# Altium schematic symbol library Components.SchLib: 39 symbols
Pins are listed as number, name and electrical type; pins without a type are passive.

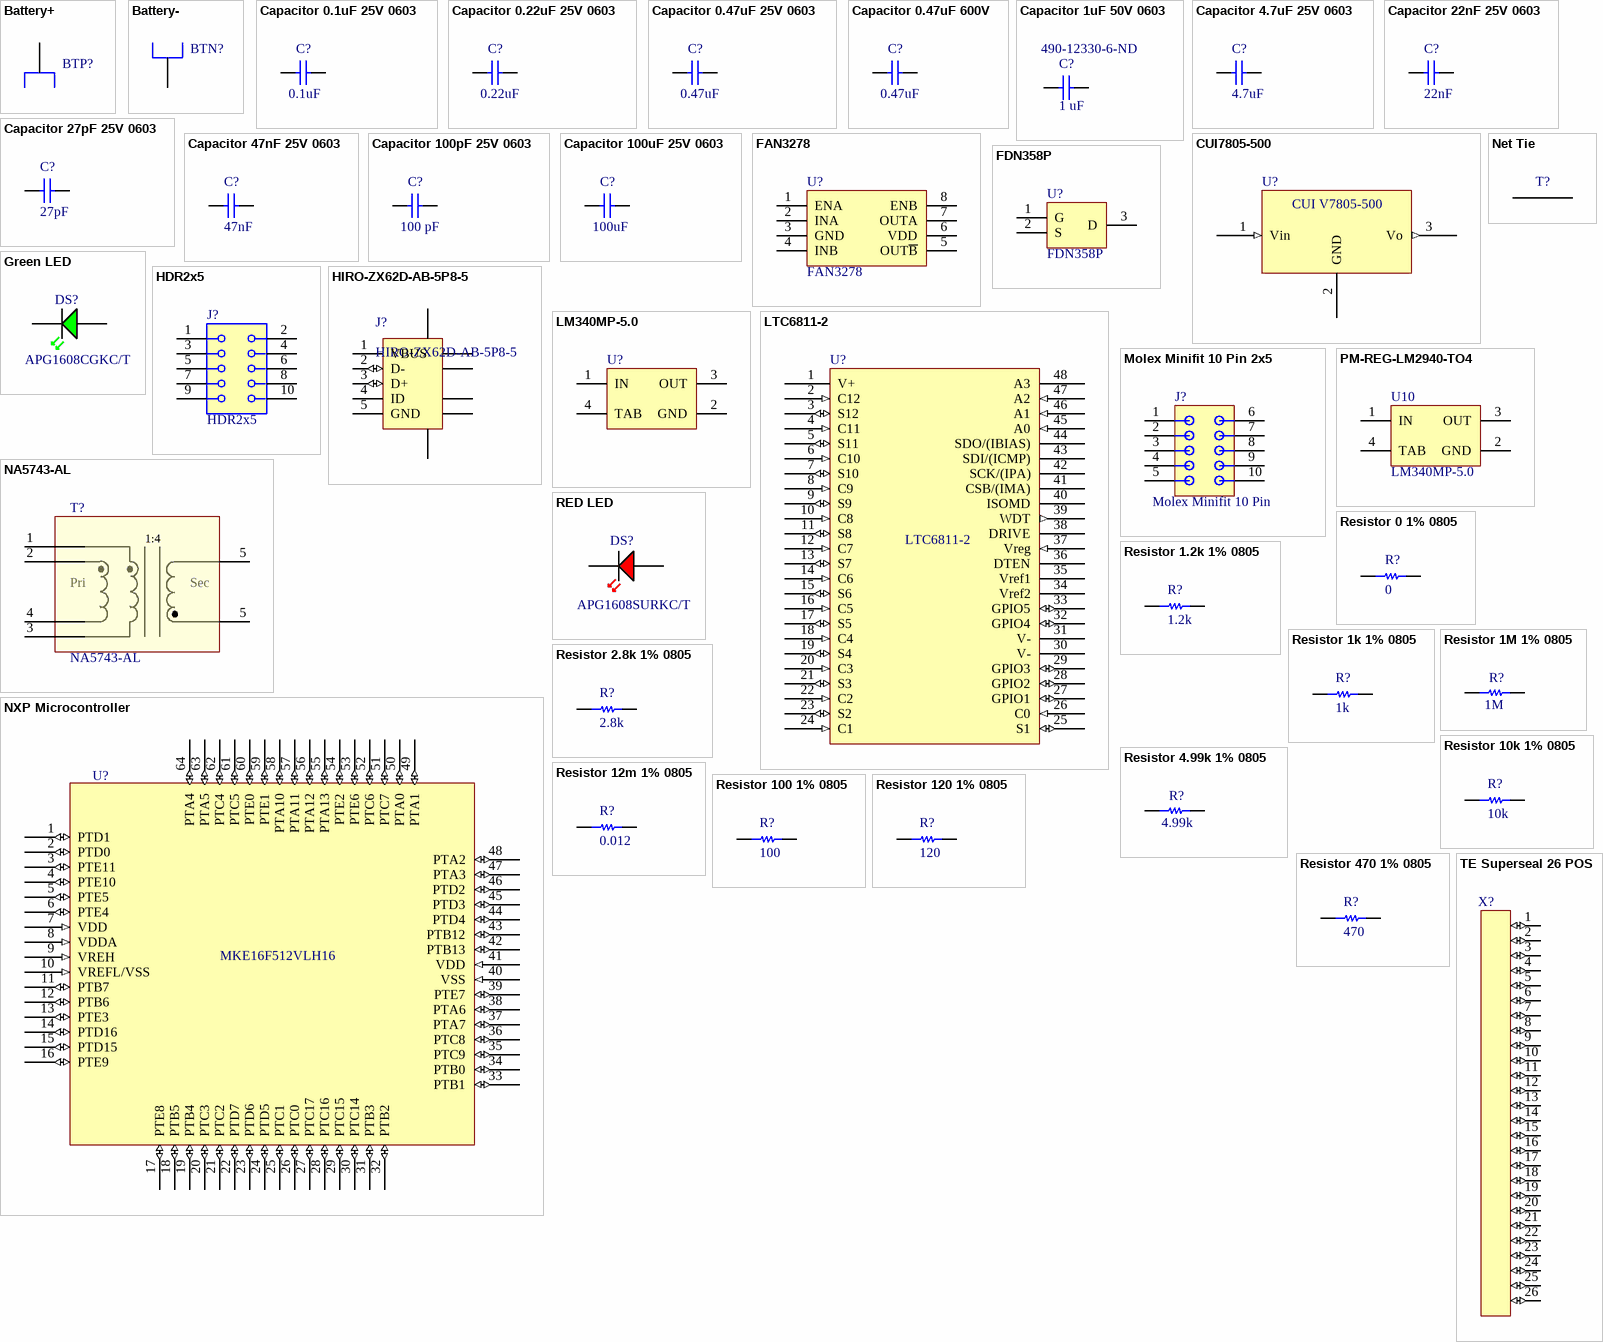
[diagram p0: symbols Battery+ to TE Superseal 26 POS]

## Battery+
designator BTP?, comment BAT+  (value not drawn)
footprint Battery (Battery Connection)
pins: 1 "Battery Positive"

## Battery-
designator BTN?, comment BAT-  (value not drawn)
footprint Battery (Battery Connection)
pins: 1 "Battery Negative"

## Capacitor 0.1uF 25V 0603
designator C?, comment 0.1uF
Supplier 1: Digi-Key; Supplier Part Number 1: 445-5667-6-ND
footprint CAP 0603 SMT (Chip Capacitor, 2-Leads, Body 1.60x0.80mm, IPC Medium Density)
pins: 1 "Positive Supply Pin", 2 "Positive Supply Pin"

## Capacitor 0.22uF 25V 0603
designator C?, comment 0.22uF
Supplier 1: Digi-Key; Supplier Part Number 1: 445-5191-6-ND
footprint CAP 0603 SMT (Chip Capacitor, 2-Leads, Body 1.60x0.80mm, IPC Medium Density)
pins: 1 "Positive Supply Pin", 2 "Positive Supply Pin"

## Capacitor 0.47uF 25V 0603
designator C?, comment 0.47uF
Supplier 1: Arrow; Supplier Part Number 1: 06033C474KAT2A**MULT1
footprint CAP 0603 SMT (Chip Capacitor, 2-Leads, Body 1.60x0.80mm, IPC Medium Density)
pins: 1 "Positive Supply Pin", 2 "Positive Supply Pin"

## Capacitor 0.47uF 600V
designator C?, comment 0.47uF
Supplier 1: Digi-Key; Supplier Part Number 1: 3640CC474KAT9A-ND
pins: 1 "Positive Supply Pin", 2 "Positive Supply Pin"

## Capacitor 1uF 50V 0603
designator C?, comment 1 uF  Supplier Part Number 1: 490-12330-6-ND
Capacitor 1 uF 50V 0603; Supplier 1: Digi-Key
footprint CAP 0603 SMT (Chip Capacitor, 2-Leads, Body 1.60x0.80mm, IPC Medium Density)
pins: 1 "Positive Supply Pin", 2 "Positive Supply Pin"

## Capacitor 4.7uF 25V 0603
designator C?, comment 4.7uF
Supplier 1: Digi-Key; Supplier Part Number 1: 490-7203-6-ND
footprint CAP 0603 SMT (Chip Capacitor, 2-Leads, Body 1.60x0.80mm, IPC Medium Density)
pins: 1 "Positive Supply Pin", 2 "Positive Supply Pin"

## Capacitor 22nF 25V 0603
designator C?, comment 22nF
Supplier 1: Digi-Key; Supplier Part Number 1: 478-5896-6-ND
footprint CAP 0603 SMT (Chip Capacitor, 2-Leads, Body 1.60x0.80mm, IPC Medium Density)
pins: 1 "Positive Supply Pin", 2 "Positive Supply Pin"

## Capacitor 27pF 25V 0603
designator C?, comment 27pF
Supplier 1: Digi-Key; Supplier Part Number 1: 445-4661-6-ND
footprint CAP 0603 SMT (Chip Capacitor, 2-Leads, Body 1.60x0.80mm, IPC Medium Density)
pins: 1 "Positive Supply Pin", 2 "Positive Supply Pin"

## Capacitor 47nF 25V 0603
designator C?, comment 47nF
Supplier 1: Digi-Key; Supplier Part Number 1: 490-1522-6-ND
footprint CAP 0603 SMT (Chip Capacitor, 2-Leads, Body 1.60x0.80mm, IPC Medium Density)
pins: 1 "Positive Supply Pin", 2 "Positive Supply Pin"

## Capacitor 100pF 25V 0603
designator C?, comment 100 pF
Supplier 1: Digi-Key; Supplier Part Number 1: 445-4675-6-ND
footprint CAP 0603 SMT (Chip Capacitor, 2-Leads, Body 1.60x0.80mm, IPC Medium Density)
pins: 1 "Positive Supply Pin", 2 "Positive Supply Pin"

## Capacitor 100uF 25V 0603
designator C?, comment 100uF
pins: 1 "Positive Supply Pin", 2 "Positive Supply Pin"

## CUI7805-500
designator U?, comment CUI V7805-500
pins: 1 Vin (in) "Input Voltage", 2 GND (power), 3 Vo (out) "Positive Supply Pin"

## FAN3278
designator U?
Supplier 1: Digi-Key; Supplier Part Number 1: FAN3278TMXDKR-ND
footprint SOIC127P600X175-8N (SOIC, 8-Leads, Body 4.90x3.90mm, Pitch 1.27mm, IPC Medium Density)
pins: 1 ENA, 2 INA, 3 GND, 4 INB, 5 OUT~{B}, 6 VDD, 7 OUTA, 8 ENB

## FDN358P
designator U?
Supplier 1: Digi-Key; Supplier Part Number 1: FDN358PDKR-ND
footprint SOT95P237X112-3N (SOT23, 3-Leads, Body 2.92x2.37mm, Pitch 0.95mm, IPC Medium Density)
pins: 1 G, 2 S, 3 D

## Green LED
designator DS?, comment APG1608CGKC/T
Supplier 1: Digi-Key; Supplier Part Number 1: 754-1357-6-ND
footprint GREEN LED (Chip Diode, 2-Leads, Body 1.60x0.80mm, IPC Medium Density)
pins: 1 "Positive Supply Pin", 2 "Positive Supply Pin"

## HDR2x5
designator J?
Supplier 1: Digi-Key; Supplier Part Number 1: 1175-1735-ND
footprint HDR 2x5 (Header, 10-Leads, Body 3.43x6.35mm, Pitch 1.27mm)
pins: 1 "Positive Supply Pin", 2 "Positive Supply Pin", 3 "Positive Supply Pin", 4 "Positive Supply Pin", 5 "Positive Supply Pin", 6 "Positive Supply Pin", 7 "Positive Supply Pin", 8 "Positive Supply Pin", 9 "Positive Supply Pin", 10 "Positive Supply Pin"

## HIRO-ZX62D-AB-5P8-5
designator J?
footprint HIROSE USB MICRO (USB Micro-AB Connector, 5-Leads, Pitch 0.65mm)
pins: 1 VBUS (power), 2 D- (io), 3 D+ (io), 4 ID, 5 GND (power), 6 SHLD, 7 SHLD, 8 SHLD, 9 SHLD, 10 SHLD, 11 SHLD

## LM340MP-5.0
designator U?
Series 3-Terminal Positive Regulators, 4-pin SOT-223; PartNumber: LM340MP-5.0; Manufacturer: National Semiconductor; PackageTopMarking: XYTT*N00A; PowerWise: N; CompType: LDO IC; High-Reliability: Y; DatasheetVersion: Jul-2006; PackageVersion: revB, Apr-2003; PackageReference: MP04A; PackageDescription: Molded SOT-223, 6.50 x 3.56 x 1.6mm Body, 4 Lead, 2.3mm Pitch; RoHS: N; PinCount: 4; Code_JEDEC: TO-261-AA; Code_IPC: SOT223-4; ComponentLink1Description: Manufacturer URL; ComponentLink1URL: http://www.national.com/; ComponentLink2Description: LM340 Datasheet; ComponentLink2URL: http://www.national.com/ds/LM/LM340.pdf; ComponentLink3Description: LM340 Web Page; ComponentLink3URL: http://www.national.com/pf/LM/LM340.html; ComponentLink4Description: MP04A Package Page; ComponentLink4URL: http://www.national.com/packaging/folders/mp04a.html
footprint MP04A_N (SOT223, 4-Leads, Body 6.5x3.5mm, Pitch 2.3mm, Lead Span 7mm, IPC Medium Density)
pins: 1 IN (power), 2 GND (power), 3 OUT (power), 4 TAB (power)

## LTC6811-2
designator U?
footprint LTC6811-2 (SSOP, 48-Leads, Body 12.80x5.50mm, Pitch 0.50mm, IPC Medium Density)
pins: 1 V+ (power) "Positive Supply Pin", 2 C12 (in) "Cell Input", 3 S12 (io) "Balance Pin", 4 C11 (in) "Positive Supply Pin", 5 S11 (io) "Positive Supply Pin", 6 C10 (in) "Positive Supply Pin", 7 S10 (io) "Positive Supply Pin", 8 C9 (in) "Cell Input", 9 S9 (io) "Balance Pin", 10 C8 (in) "Positive Supply Pin", 11 S8 (io) "Balance Pin", 12 C7 (in) "Positive Supply Pin", 13 S7 (io) "Positive Supply Pin", 14 C6 (in) "Positive Supply Pin", 15 S6 (io) "Balance Pin", 16 C5 (in) "Positive Supply Pin", 17 S5 (io) "Positive Supply Pin", 18 C4 (in) "Positive Supply Pin", 19 S4 (io) "Positive Supply Pin", 20 C3 (in) "Positive Supply Pin", 21 S3 (io) "Positive Supply Pin", 22 C2 (in) "Positive Supply Pin", 23 S2 (io) "Positive Supply Pin", 24 C1 (in) "Cell Input", 25 S1 (io) "Positive Supply Pin", 26 C0 (in) "Positive Supply Pin", 27 GPIO1 (io) "Positive Supply Pin", 28 GPIO2 (io) "General", 29 GPIO3 (io) "Positive Supply Pin", 30 V- (power) "Positive Supply Pin", 31 V- (power) "Positive Supply Pin", 32 GPIO4 (io) "Positive Supply Pin", 33 GPIO5 (io) "Positive Supply Pin", 34 Vref2 "Positive Supply Pin", 35 Vref1 "Positive Supply Pin", 36 DTEN "Positive Supply Pin", 37 Vreg (in) "Positive Supply Pin", 38 DRIVE "Positive Supply Pin", 39 WDT (out) "Positive Supply Pin", 40 ISOMD "Positive Supply Pin", 41 CSB/(IMA) "Positive Supply Pin", 42 SCK/(IPA) "Positive Supply Pin", 43 SDI/(ICMP) "Positive Supply Pin", 44 SDO/(IBIAS) "Positive Supply Pin", 45 A0 (in) "Positive Supply Pin", 46 A1 (in) "Positive Supply Pin", 47 A2 (in) "Positive Supply Pin", 48 A3 "Positive Supply Pin"

## Molex Minifit 10 Pin 2x5
designator J?, comment Molex Minifit 10 Pin
Supplier 1: Digi-Key; Supplier Part Number 1: WM21355-ND
footprint 10-Pin Connector (Molex Minifit 10 Pin)
pins: 1, 2, 3, 4, 5, 6, 7, 8, 9, 10

## NA5743-AL
designator T?
footprint NA5743-AL
pins: 1, 2, 3, 4, 5, 5 8
text: 1:4; Pri; Sec

## Net Tie
designator T?  (value not drawn)  (net tie, no BOM)
footprint Net Tie 10mil
pins: 1, 2

## NXP Microcontroller
designator U?, comment MKE16F512VLH16
footprint MKE16F512VLH16
pins: 1 PTD1 (io), 2 PTD0 (io), 3 PTE11 (io), 4 PTE10 (io), 5 PTE5 (io), 6 PTE4 (io), 7 VDD (in), 8 VDDA (in), 9 VREH (in), 10 VREFL/VSS (in), 11 PTB7 (io), 12 PTB6 (io), 13 PTE3 (io), 14 PTD16 (io), 15 PTD15 (io), 16 PTE9 (io), 17 PTE8 (io), 18 PTB5 (io), 19 PTB4 (io), 20 PTC3 (io), 21 PTC2 (io), 22 PTD7 (io), 23 PTD6 (io), 24 PTD5 (io), 25 PTC1 (io), 26 PTC0 (io), 27 PTC17 (io), 28 PTC16 (io), 29 PTC15 (io), 30 PTC14 (io), 31 PTB3 (io), 32 PTB2 (io), 33 PTB1 (io), 34 PTB0 (io), 35 PTC9 (io), 36 PTC8 (io), 37 PTA7 (io), 38 PTA6 (io), 39 PTE7 (io), 40 VSS (in), 41 VDD (in), 42 PTB13 (io), 43 PTB12 (io), 44 PTD4 (io), 45 PTD3 (io), 46 PTD2 (io), 47 PTA3 (io), 48 PTA2 (io), 49 PTA1 (io), 50 PTA0 (io), 51 PTC7 (io), 52 PTC6 (io), 53 PTE6 (io), 54 PTE2 (io), 55 PTA13 (io), 56 PTA12 (io), 57 PTA11 (io), 58 PTA10 (io), 59 PTE1 (io), 60 PTE0 (io), 61 PTC5 (io), 62 PTC4 (io), 63 PTA5 (io), 64 PTA4 (io)

## PM-REG-LM2940-TO4
designator U10, comment LM340MP-5.0
Series 3-Terminal Positive Regulators, 4-pin SOT-223; Manufacturer: Texas Instruments; CompType: LDO IC; PackageTopMarking: XYTT*N00A; PowerWise: N; PackageReference: DCY0004A; Code_IPC: SOT223-4; RoHS: N; PackageDescription: Molded SOT-223, 6.50 x 3.56 x 1.6mm Body, 4 Lead, 2.3mm Pitch; ComponentLink1URL: http://www.ti.com/general/docs/lit/getliterature.tsp?genericPartNumber=LM340-N&fileType=pdf; ComponentLink1Description: Datasheet URL; PinCount: 4; Code_JEDEC: TO-261-AA
footprint DCY0004A_M (SOT223, 4-Leads, Body 6.7x3.7mm, Pitch 2.3mm, IPC Low Density)
footprint DCY0004A_N (SOT223, 4-Leads, Body 6.7x3.7mm, Pitch 2.3mm, IPC Medium Density)
footprint DCY0004A_L (SOT223, 4-Leads, Body 6.7x3.7mm, Pitch 2.3mm, IPC High Density)
pins: 1 IN (power), 2 GND (power), 3 OUT (power), 4 TAB (power)

## RED LED
designator DS?, comment APG1608SURKC/T
Supplier 1: Digi-Key; Supplier Part Number 1: 754-1359-6-ND
footprint RED LED (Chip Diode, 2-Leads, Body 1.60x0.80mm, IPC Medium Density)
pins: 1 "Positive Supply Pin", 2 "Positive Supply Pin"

## Resistor 0 1% 0805
designator R?, comment 0
Supplier 1: Digi-Key; Supplier Part Number 1: 541-0.0ADKR-ND
footprint RES SMT 0805 (Chip Resistor, 2-Leads, Body 2.05x1.25mm, IPC Medium Density)
pins: 1 (power) "Positive Supply Pin", 2 (power) "Positive Supply Pin"

## Resistor 1.2k 1% 0805
designator R?, comment 1.2k
Supplier 1: Digi-Key; Supplier Part Number 1: 541-1.20KCDKR-ND
footprint RES SMT 0805 (Chip Resistor, 2-Leads, Body 2.05x1.25mm, IPC Medium Density)
pins: 1 "Positive Supply Pin", 2 "Positive Supply Pin"

## Resistor 1k 1% 0805
designator R?, comment 1k
Supplier 1: Digi-Key; Supplier Part Number 1: 541-1.00KCDKR-ND
footprint RES SMT 0805 (Chip Resistor, 2-Leads, Body 2.05x1.25mm, IPC Medium Density)
pins: 1 "Positive Supply Pin", 2 "Positive Supply Pin"

## Resistor 1M 1% 0805
designator R?, comment 1M
Resistor 1M 1% 0805; Supplier 1: Digi-Key; Supplier Part Number 1: 541-1.00MCCT-ND
footprint RES SMT 0805 (Chip Resistor, 2-Leads, Body 2.05x1.25mm, IPC Medium Density)
pins: 1 "Positive Supply Pin", 2 "Positive Supply Pin"

## Resistor 2.8k 1% 0805
designator R?, comment 2.8k
Supplier 1: Digi-Key; Supplier Part Number 1: 541-2.80KCDKR-ND
footprint RES SMT 0805 (Chip Resistor, 2-Leads, Body 2.05x1.25mm, IPC Medium Density)
pins: 1 "Positive Supply Pin", 2 "Positive Supply Pin"

## Resistor 4.99k 1% 0805
designator R?, comment 4.99k
Resistor 4.99k 1% 0805; Supplier 1: Digi-Key; Supplier Part Number 1: 541-4.99KCDKR-ND
footprint RES SMT 0805 (Chip Resistor, 2-Leads, Body 2.05x1.25mm, IPC Medium Density)
pins: 1 "Positive Supply Pin", 2 "Positive Supply Pin"

## Resistor 10k 1% 0805
designator R?, comment 10k
Supplier 1: Digi-Key; Supplier Part Number 1: 541-10.0KCDKR-ND
footprint RES SMT 0805 (Chip Resistor, 2-Leads, Body 2.05x1.25mm, IPC Medium Density)
pins: 1 "Positive Supply Pin", 2 "Positive Supply Pin"

## Resistor 12m 1% 0805
designator R?, comment 0.012
Supplier 1: Digi-Key; Supplier Part Number 1: WSLPB-.012DKR-ND
footprint RES SMT 0805 (Chip Resistor, 2-Leads, Body 2.05x1.25mm, IPC Medium Density)
pins: 1 "Positive Supply Pin", 2 "Positive Supply Pin"

## Resistor 100 1% 0805
designator R?, comment 100
Resistor 100 1% 805; Supplier 1: Digi-Key; Supplier Part Number 1: 541-100CCT-ND
footprint RES SMT 0805 (Chip Resistor, 2-Leads, Body 2.05x1.25mm, IPC Medium Density)
pins: 1 "Positive Supply Pin", 2 "Positive Supply Pin"

## Resistor 120 1% 0805
designator R?, comment 120
Supplier 1: Digi-Key; Supplier Part Number 1: 541-120CDKR-ND
footprint RES SMT 0805 (Chip Resistor, 2-Leads, Body 2.05x1.25mm, IPC Medium Density)
pins: 1 "Positive Supply Pin", 2 "Positive Supply Pin"

## Resistor 470 1% 0805
designator R?, comment 470
Supplier 1: Digi-Key; Supplier Part Number 1: 541-470KCDKR-ND
footprint RES SMT 0805 (Chip Resistor, 2-Leads, Body 2.05x1.25mm, IPC Medium Density)
pins: 1 "Positive Supply Pin", 2 "Positive Supply Pin"

## TE Superseal 26 POS
designator X?  (value not drawn)
footprint TE_SUPERSEAL_26
pins: 1 (io), 2 (io), 3 (io), 4 (io), 5 (io), 6 (io), 7 (io), 8 (io), 9 (io), 10 (io), 11 (io), 12 (io), 13 (io), 14 (io), 15 (io), 16 (io), 17 (io), 18 (io), 19 (io), 20 (io), 21 (io), 22 (io), 23 (io), 24 (io), 25 (io), 26 (io)